# Altium schematic symbol library silicon-labs-iso.SchLib: 3 symbols
Pins are listed as number, name and electrical type; pins without a type are passive.

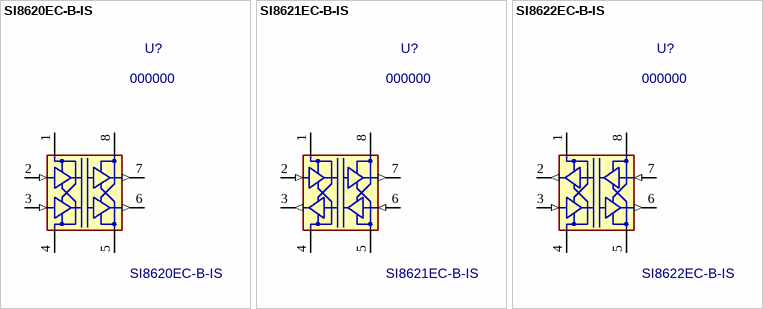
[diagram p0: symbols SI8620EC-B-IS to SI8622EC-B-IS]

## SI8620EC-B-IS
designator U?, comment 000000  value SI8620EC-B-IS
Dual Channel Digital Isolator; PN: 000000; Package: 8-SOIC; ExtraInfo: *
footprint 8-SOIC (Plastic Small Outline 8)
pins: 1 VDD1 (power), 2 A1 (in), 3 A2 (in), 4 GND1 (power), 5 GND2 (power), 6 B2 (out), 7 B1 (out), 8 VDD2 (power)

## SI8621EC-B-IS
designator U?, comment 000000  value SI8621EC-B-IS
Dual Channel Digital Isolator; PN: 000000; Package: 8-SOIC; ExtraInfo: *
footprint 8-SOIC (Plastic Small Outline 8)
pins: 1 VDD1 (power), 2 A1 (in), 3 A2 (out), 4 GND1 (power), 5 GND2 (power), 6 B2 (in), 7 B1 (out), 8 VDD2 (power)

## SI8622EC-B-IS
designator U?, comment 000000  value SI8622EC-B-IS
Dual Channel Digital Isolator; PN: 000000; Package: 8-SOIC; ExtraInfo: *
footprint 8-SOIC (Plastic Small Outline 8)
pins: 1 VDD1 (power), 2 A1 (out), 3 A2 (in), 4 GND1 (power), 5 GND2 (power), 6 B2 (out), 7 B1 (in), 8 VDD2 (power)